# Altium footprint library PCB - LEADED - 8-MSOP.PCBLIB: 1 footprints
Each footprint in its own frame and in the unit in brackets; x right, y up, seen from the top. Pads: shape width x height; smd on the part's side, far side on the other; paste and mask are expansions set on the pad; w line width, h text height; cw(c..) or ccw(c..) is an arc to the next point about the centre after c.
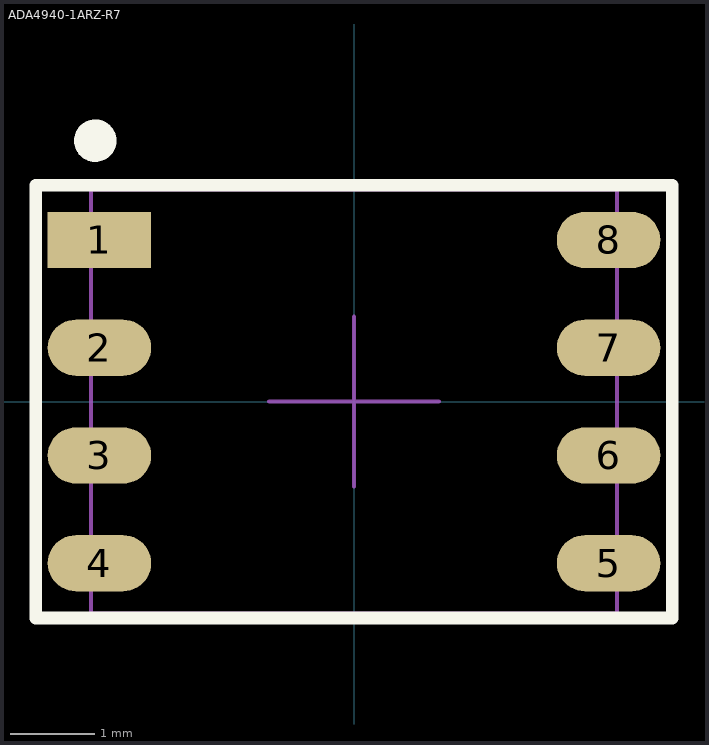
[diagram p0: the footprint, top view; thin cyan lines are the x and y axes]

## ADA4940-1ARZ-R7 [mm]
pads (8):
  rect 1.22x0.663 smd: 1(-3,1.905)
  oval 1.22x0.663 smd: 2(-3,0.635) 3(-3,-0.635) 4(-3,-1.905) 5(3,-1.905) 6(3,-0.635) 7(3,0.635) 8(3,1.905)
Top Overlay:
  circle w0.25: c-3.05,3.075 r0.125
  lines w0.15: -3.75,-2.55 -3.75,2.55 3.75,2.55 3.75,-2.55 -3.75,-2.55
Top Assembly:
  lines w0.05: -3.1,-2.5 3.1,-2.5 3.1,2.5 -3.1,2.5 -3.1,-2.5
Top Courtyard:
  lines w0.05: -3.75,-2.55 -3.75,2.55 3.75,2.55 3.75,-2.55 -3.75,-2.55
Top Designator:
  text ".Designator" at 4,1.017 h0.8
Top Component Center:
  lines w0.05: -1,0 1,0 ; 0,-1 0,1
3D body "R_8_ADI.step": height 1.76, standoff 0, extent -3.099,-2.502 3.099,2.502